# EAGLE library part BME280BOARD (library MSMG)
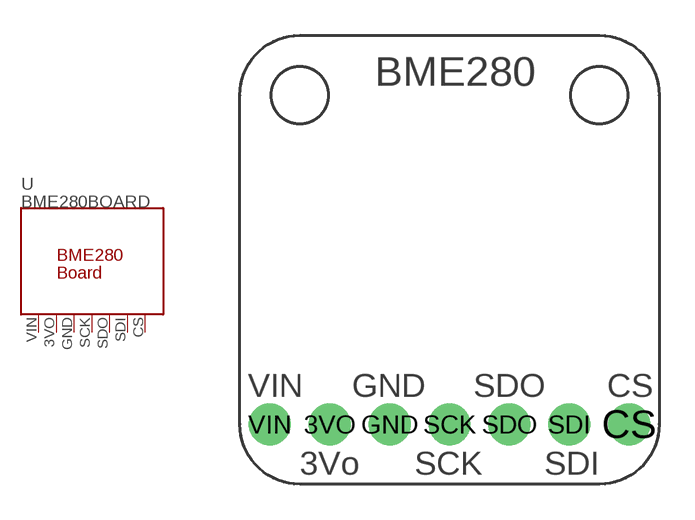
[diagram p4: symbol with the pads of BME280BOARD; footprint BME280BOARD]

Designator prefix U

## BME280BOARD  [BME280BOARD]
3VO  3VO
CS  CS
GND  GND
SCK  SCK
SDI  SDI
SDO  SDO
VIN  VIN

## Footprint BME280BOARD (pad centres in mm)
drill 1.016 pad 1.778: 3VO 3.81,2.54; CS 16.51,2.54; GND 6.35,2.54; SCK 8.89,2.54; SDI 13.97,2.54; SDO 11.43,2.54; VIN 1.27,2.54